# EAGLE library part RFM9X_MODULE (library edc_modules)
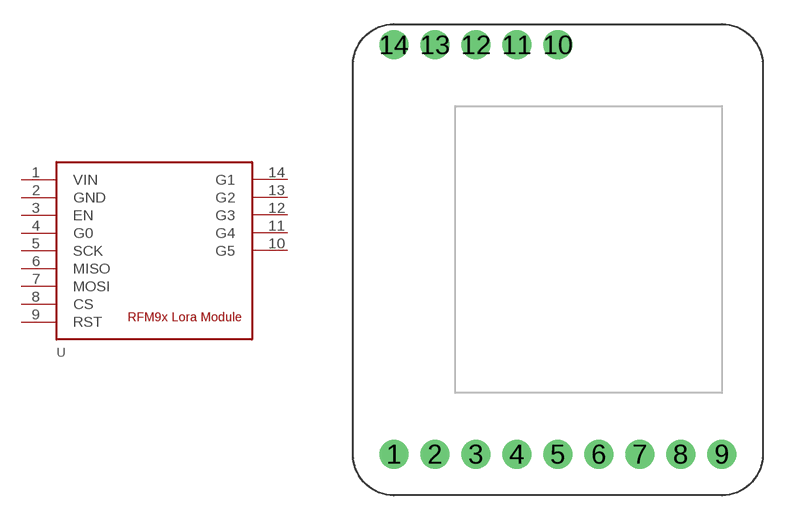
[diagram p5: symbol with the pads of RFM9X_MODULE; footprint RFM9X_MODULE]

Designator prefix -

## RFM9X_MODULE  [RFM9X_MODULE]
1  VIN
2  GND
3  EN
4  G0
5  SCK
6  MISO
7  MOSI
8  CS
9  RST
10  G5
11  G4
12  G3
13  G2
14  G1

## Footprint RFM9X_MODULE (pad centres in mm)
drill 1.016 pad 1.778: 1 2.54,2.54; 2 5.08,2.54; 3 7.62,2.54; 4 10.16,2.54; 5 12.7,2.54; 6 15.24,2.54; 7 17.78,2.54; 8 20.32,2.54; 9 22.86,2.54; 10 12.7,27.94; 11 10.16,27.94; 12 7.62,27.94; 13 5.08,27.94; 14 2.54,27.94